# Altium schematic symbol library Schlib1.SchLib: 40 symbols (part 2 of 2)
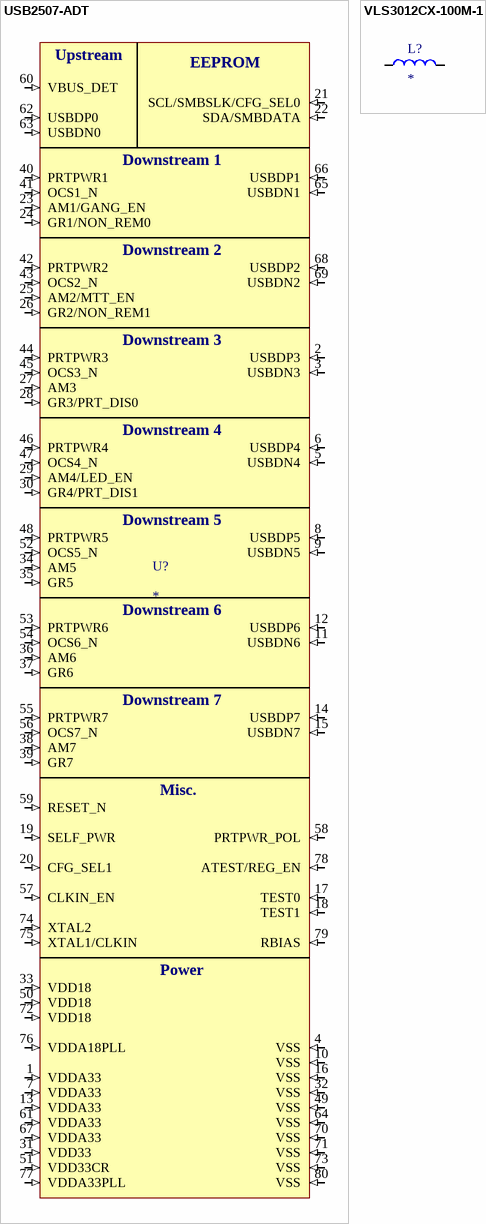
[diagram p2: symbols USB2507-ADT to VLS3012CX-100M-1]

## USB2507-ADT
designator U?
Low Speed/Full Speed/High Speed Compatible 7 Port Hub USB 2.0 1.8V/3.3V Tray 80-Pin TQFP; Manufacturer: Microchip; Manufacturer Part Number: USB2507-ADT; Data Rate: 480Mbps; Nominal Supply Current: 360mA; Min Supply Voltage: 3V; Max Supply Voltage: 3.6V; Number of Transceivers: 3; Interface: USB,I2C,Serial; Operating Supply Voltage: 3.3V; Operating Supply Current: 100mA; Number of Ports: 7; Supplier 1: Arrow Electronics; RoHS: Yes; Category: Integrated Circuits (ICs); Stock 1: 130; Pricing 1: 1=7.41290 (USD); Mount: Surface Mount; Case/Package: TQFP; Number of Pins: 80; Contact Plating: Tin,Matte; Min Operating Temperature: 0°C; Max Operating Temperature: 70°C; Packaging: Tray; Package Quantity: 119; Termination: SMD/SMT; Dual Supply Voltage: 3.3V; Number of Channels: 7; Series: -; Supply Current: 360mA; Length: 12mm; Width: 12mm; Height: 1.4mm; Radiation Hardening: No; Lead Free: Lead Free; REACH SVHC: No SVHC; RoHS Compliant: Yes; ComponentLink1URL: https://datasheet.ciiva.com/41459/001086006-da-01-en-ic-hub-7port-usb-usb2507-adt-tqfp-80-mcp-41459381.pdf?src-supplier=Conrad; ComponentLink1Description: https://datasheet.ciiva.com/41459/001086006-da-01-en-ic-hub-7port-usb-usb2507-adt-tqfp-80-mcp-41459381.pdf?src-supplier=Conrad; ComponentLink2URL: https://datasheet.ciiva.com/6636/2507-6636631.pdf?src-supplier=Digi-Key; ComponentLink2Description: https://datasheet.ciiva.com/6636/2507-6636631.pdf?src-supplier=Digi-Key; Supplier Part Number 1: USB2507-ADT
footprint USB2507-ADT
pins: 1 VDDA33 (in), 2 USBDP3 (in), 3 USBDN3 (in), 4 VSS (in), 5 USBDN4 (in), 6 USBDP4 (in), 7 VDDA33 (in), 8 USBDP5 (in), 9 USBDN5 (in), 10 VSS (in), 11 USBDN6 (in), 12 USBDP6 (in), 13 VDDA33 (in), 14 USBDP7 (in), 15 USBDN7 (in), 16 VSS (in), 17 TEST0 (in), 18 TEST1 (in), 19 SELF_PWR (in), 20 CFG_SEL1 (in), 21 SCL/SMBSLK/CFG_SEL0 (in), 22 SDA/SMBDATA (in), 23 AM1/GANG_EN (in), 24 GR1/NON_REM0 (in), 25 AM2/MTT_EN (in), 26 GR2/NON_REM1 (in), 27 AM3 (in), 28 GR3/PRT_DIS0 (in), 29 AM4/LED_EN (in), 30 GR4/PRT_DIS1 (in), 31 VDD33 (in), 32 VSS (in), 33 VDD18 (in), 34 AM5 (in), 35 GR5 (in), 36 AM6 (in), 37 GR6 (in), 38 AM7 (in), 39 GR7 (in), 40 PRTPWR1 (in), 41 OCS1_N (in), 42 PRTPWR2 (in), 43 OCS2_N (in), 44 PRTPWR3 (in), 45 OCS3_N (in), 46 PRTPWR4 (in), 47 OCS4_N (in), 48 PRTPWR5 (in), 49 VSS (in), 50 VDD18 (in), 51 VDD33CR (in), 52 OCS5_N (in), 53 PRTPWR6 (in), 54 OCS6_N (in), 55 PRTPWR7 (in), 56 OCS7_N (in), 57 CLKIN_EN (in), 58 PRTPWR_POL (in), 59 RESET_N (in), 60 VBUS_DET (in), 61 VDDA33 (in), 62 USBDP0 (in), 63 USBDN0 (in), 64 VSS (in), 65 USBDN1 (in), 66 USBDP1 (in), 67 VDDA33 (in), 68 USBDP2 (in), 69 USBDN2 (in), 70 VSS (in), 71 VSS (in), 72 VDD18 (in), 73 VSS (in), 74 XTAL2 (in), 75 XTAL1/CLKIN (in), 76 VDDA18PLL (in), 77 VDDA33PLL (in), 78 ATEST/REG_EN (in), 79 RBIAS (in), 80 VSS (in)
text: Upstream; EEPROM; Downstream 1; Downstream 2; Downstream 3; Downstream 4; Downstream 5; Downstream 6; Downstream 7; Misc.; Power

## VLS3012CX-100M-1
designator L?
Inductor Power Shielded Wirewound 10uH 20% 1MHz Ferrite 1.12A 0.324Ohm DCR 1212 T/R; Manufacturer: TDK; Manufacturer Part Number: VLS3012CX-100M-1; Current Rating: 1.25A; Saturation Current: 1A; DC Resistance (DCR): 324mR; Supplier 1: Mouser; RoHS: Yes; Category: Fixed Inductors; Stock 1: 61514; Pricing 1: 1=0.42000, 10=0.27800, 50=0.27800, 100=0.23100, 1000=0.16700, 10000=0.13600 (USD); Mount: Surface Mount; Case/Package: Nonstandard; Core Material: Ferrite; Min Operating Temperature: -40°C; Max Operating Temperature: 105°C; Resistor Type: Wirewound; Packaging: Tape and Reel; Inductance: 10uH; Tolerance: 20%; Shielding: Shielded; Test Frequency: 1MHz; RoHS Compliant: Yes; ComponentLink1URL: https://product.tdk.com/info/en/catalog/datasheets/inductor_commercial_power_vls3012cx-1_en.pdf?src-supplier=Digi-Key; ComponentLink1Description: https://product.tdk.com/info/en/catalog/datasheets/inductor_commercial_power_vls3012cx-1_en.pdf?src-supplier=Digi-Key; Supplier Part Number 1: 810-VLS3012CX-100M-1
footprint VLS3012CX-100M-1
pins: 1, 2